# Altium footprint library DXPpcb.PCBLIB: 575 footprints (part 26 of 36)
Each footprint in its own frame and in the unit in brackets; x right, y up, seen from the top. Pads: shape width x height; smd on the part's side, far side on the other; paste and mask are expansions set on the pad; w line width, h text height; cw(c..) or ccw(c..) is an arc to the next point about the centre after c.
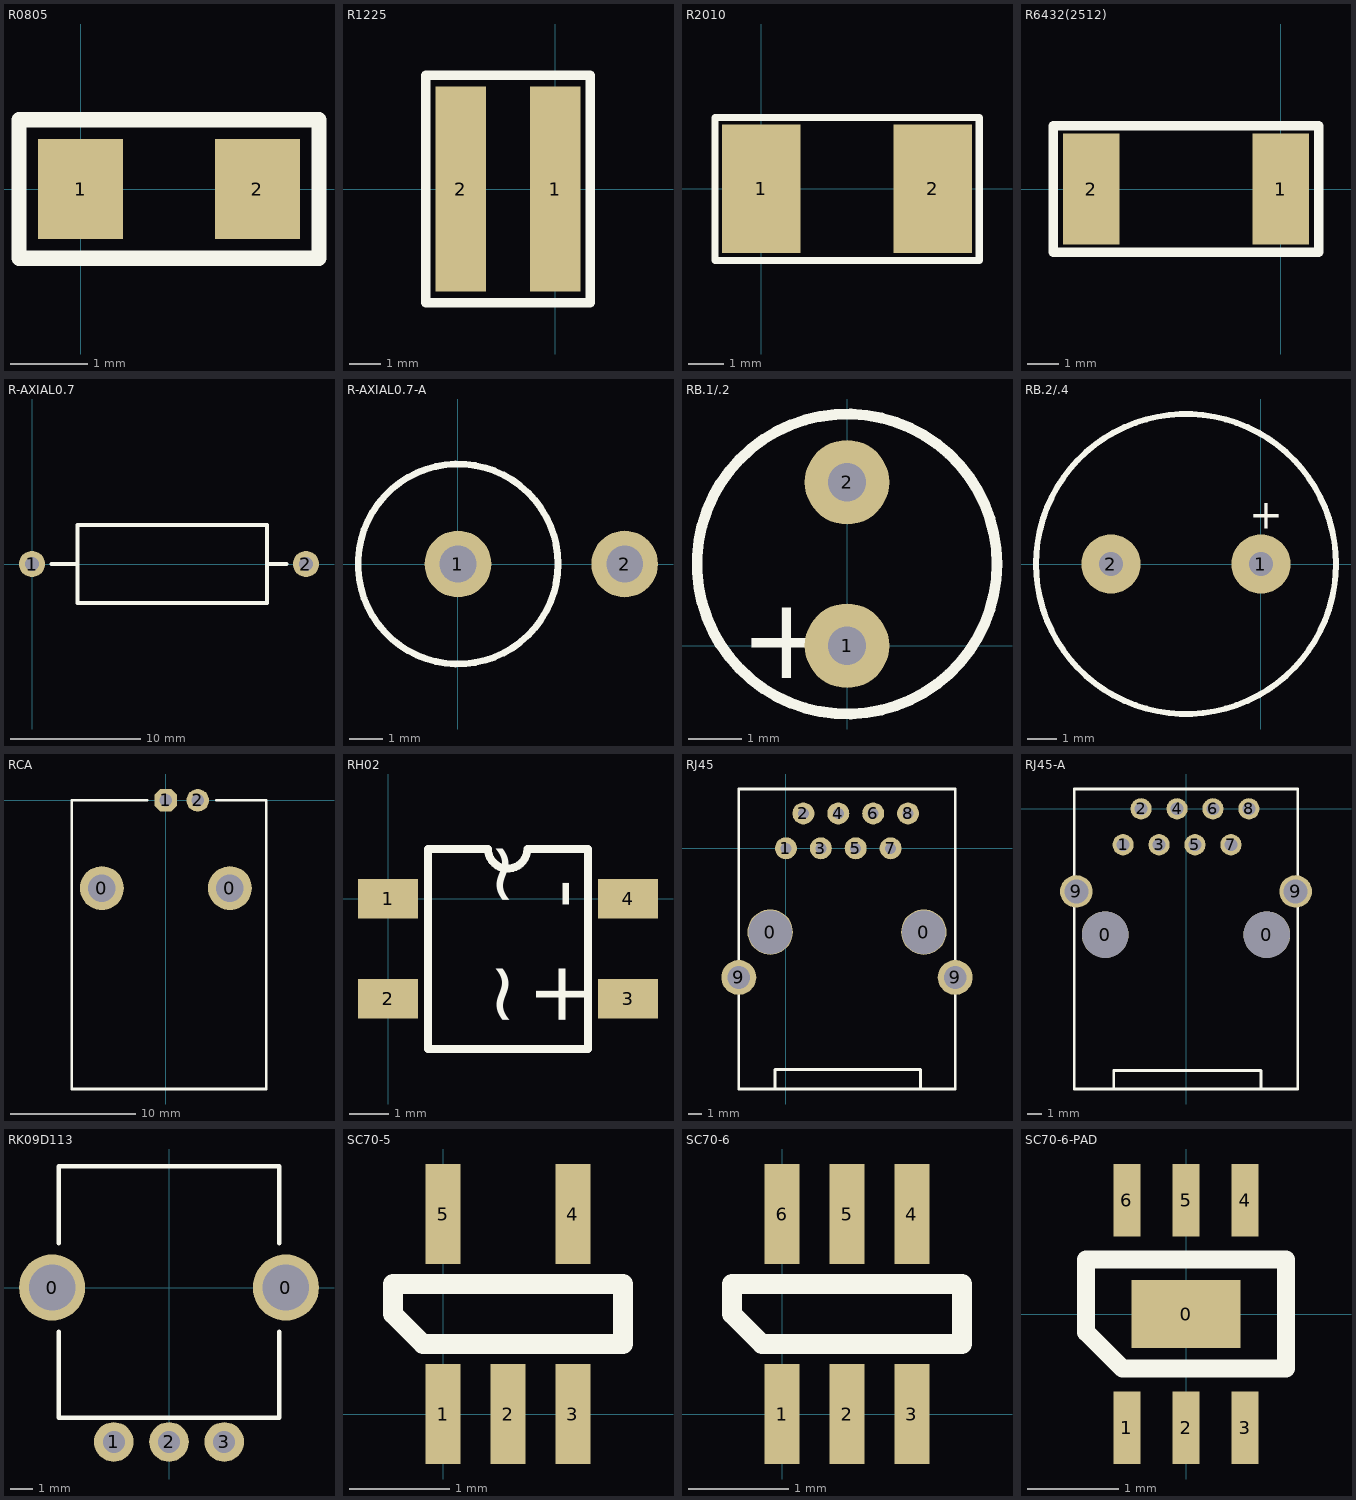
[diagram p25: the footprints below, top view; thin cyan lines are the x and y axes]

## R0805 [mm]
pads (2):
  rect 1.1x1.3 smd: 1(0,0) 2(2.3,0)
TopOverlay:
  lines w0.2: -0.8,-0.9 3.1,-0.9 3.1,0.9 -0.8,0.9 -0.8,-0.9

## R1225 [mm]
pads (2):
  rect 1.6x6.5 smd: 1(0,0) 2(-3,0)
TopOverlay:
  lines w0.3: -4.1,-3.6 1.1,-3.6 1.1,3.6 -4.1,3.6 -4.1,-3.6

## R2010 [mm]
pads (2):
  rect 2.2x3.6 smd: 1(0,0) 2(4.8,0)
TopOverlay:
  lines w0.2: -1.299,-2.012 6.101,-2.012 6.101,1.988 -1.299,1.988 -1.299,-2.012

## R6432(2512) [mm]
pads (2):
  rect 1.8x3.5 smd: 1(0,0) 2(-6,0)
TopOverlay:
  lines w0.3: -7.2,-2 1.2,-2 1.2,2 -7.2,2 -7.2,-2

## R-AXIAL0.7 [mm]
pads (2):
  round 2 hole 1.1: 1(0,0) 2(21,0)
TopOverlay:
  lines w0.3: 1.5,0 3.5,0 ; 18,0 19.5,0 ; 3.5,-3 3.5,3 18,3 18,-3 3.5,-3

## R-AXIAL0.7-A [mm]
pads (2):
  round 2 hole 1.1: 1(0,0) 2(5,0)
TopOverlay:
  circle w0.2: c0,0 r3

## RB.1/.2 [mil]
pads (2):
  round 62 hole 28: 1(0,0) 2(0,120)
TopOverlay:
  circle w7.87: c0,60 r110
  text "+" at -78.74,-23.62 h60

## RB.2/.4 [mm]
pads (2):
  round 2 hole 0.8: 1(0,0) 2(-5.08,0)
TopOverlay:
  circle w0.2: c-2.54,0 r5.08
  text "+" at -0.4,1.2 h1

## RCA [mm]
pads (4):
  round 3.5 hole 2.2: 0(-5.1,-7) 0(5.1,-7)
  oct 1.8x1.8 hole 1: 1(0,0)
  round 1.8 hole 1: 2(2.54,0)
TopOverlay:
  lines w0.2: -1.5,0 -7.5,0 -7.5,-23 8,-23 8,0 4,0

## RH02 [mil]
pads (4):
  rect 60x39.37 smd: 1(0,0) 2(0,-100) 3(240,-100) 4(240,0)
TopOverlay:
  lines w7.87: 40,-150 40,50 100,50 ccw(c119.69,50) 139.37,50 200,50 200,-150 40,-150
  text "~" at 140,-10 h60
  text "~" at 140,-130 h60
  text "-" at 200,-10 h60
  text "+" at 200,-130 h60

## RJ45 [mm]
pads (12):
  round 3.302 hole 3.175: 0(-1.143,-6.096) 0(10.033,-6.096)
  round 1.6 hole 0.8: 1(0,0) 2(1.27,2.54) 3(2.54,0) 4(3.81,2.54) 5(5.08,0) 6(6.35,2.54) 7(7.62,0) 8(8.89,2.54)
  round 2.54 hole 1.651: 9(-3.429,-9.398) 9(12.319,-9.398)
TopOverlay:
  lines w0.2: -0.8,-17.5 -0.8,-16.1 9.8,-16.1 9.8,-17.5 ; -3.429,-17.518 -3.429,4.318 12.319,4.318 12.319,-17.518 -3.429,-17.518

## RJ45-A [mm]
pads (12):
  round 3.3 hole 3.3: 0(-5.715,-8.89) 0(5.715,-8.89)
  round 1.5 hole 0.9: 1(-4.445,-2.54) 2(-3.175,0) 3(-1.905,-2.54) 4(-0.635,0) 5(0.635,-2.54) 6(1.905,0) 7(3.175,-2.54) 8(4.445,0)
  round 2.3 hole 1.7: 9(-7.75,-5.84) 9(7.75,-5.84)
TopOverlay:
  lines w0.2: -5.1,-19.8 -5.1,-18.5 5.3,-18.5 5.3,-19.8 ; -7.9,-19.8 7.9,-19.8 7.9,1.4 -7.9,1.4 -7.9,-19.8

## RK09D113 [mm]
pads (5):
  round 3 hole 2.1: 0(-5.3,0) 0(5.3,0)
  round 1.8 hole 1: 1(-2.5,-7) 2(0,-7) 3(2.5,-7)
TopOverlay:
  lines w0.2: -5,-2 -5,-5.9 5,-5.9 5,-2 ; -5,2 -5,5.5 5,5.5 5,2

## SC70-5 [mm]
pads (5):
  rect 0.35x1 smd: 1(0,0) 2(0.65,0) 3(1.3,0) 4(1.3,2) 5(0,2)
TopOverlay:
  lines w0.2: -0.5,1 -0.2,0.7 1.8,0.7 1.8,1.3 -0.5,1.3 -0.5,1

## SC70-6 [mm]
pads (6):
  rect 0.35x1 smd: 1(0,0) 2(0.65,0) 3(1.3,0) 4(1.3,2) 5(0.65,2) 6(0,2)
TopOverlay:
  lines w0.2: -0.5,1 -0.2,0.7 1.8,0.7 1.8,1.3 -0.5,1.3 -0.5,1

## SC70-6-PAD [mm]
pads (7):
  rect 1.2x0.75 smd: 0(0,0)
  rect 0.3x0.8 smd: 1(-0.65,-1.25) 2(0,-1.25) 3(0.65,-1.25) 4(0.65,1.25) 5(0,1.25) 6(-0.65,1.25)
TopOverlay:
  lines w0.2: -1.1,-0.2 -0.7,-0.6 1.1,-0.6 1.1,0.6 -1.1,0.6 -1.1,-0.2